# Altium schematic symbol library 0603B562K500CT.SchLib: 1 symbol
Pins are listed as number, name and electrical type; pins without a type are passive.

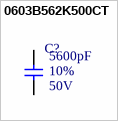
[diagram p0: symbol 0603B562K500CT]

## 0603B562K500CT
designator C?  Rated Voltage: 50V  Tolerance: 10%  Capacitence: 5600pF  (hidden comment: 0603B562K500CT)
CAP CER 5600PF 50V X7R 0603; MFR: Walsin Technology Corporation; PN: *; ComponentLink1Description: Datasheet; ComponentLink1URL: www.google.com; Temperature Coefficient: X7R; Package: 0603; Footprint: C0603; Supplier 1: Mouser; Supplier Part Number 1: 791-0603B562K500CT
footprint C0603 (Generic C0603 Footprint)
pins: 1, 2